# EAGLE library part LM386 (library stutz-components-library)
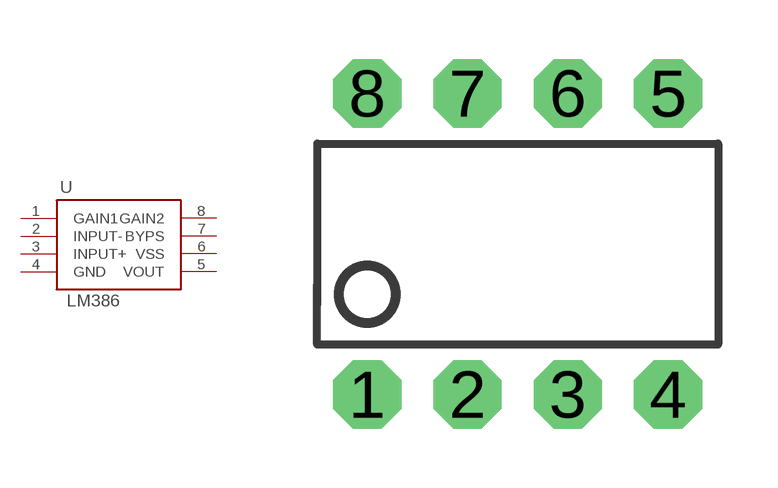
[diagram p28: symbol with the pads of PDIP-8PIN; footprint PDIP-8PIN]

Designator prefix -

## LM386  [PDIP-8PIN]
1  GAIN1  pas
2  INPUT-  in
3  INPUT+  in
4  GND  pwr
5  VOUT  out
6  VSS  pwr
7  BYPS  out
8  GAIN2  pas

## Footprint PDIP-8PIN (pad centres in mm)
drill 0.813 pad 1.727 octagon: 1 -3.81,-3.81; 2 -1.27,-3.81; 3 1.27,-3.81; 4 3.81,-3.81; 5 3.81,3.81; 6 1.27,3.81; 7 -1.27,3.81; 8 -3.81,3.81